# EAGLE library part PCA9554PW,118 (library PCA9554PW_118)
8-bit I2C-bus and SMBus I/O port with interrupt Check availability <https://pricing.snapeda.com/parts/PCA9554PW%2C118/NXP%20USA/view-part?ref=eda>
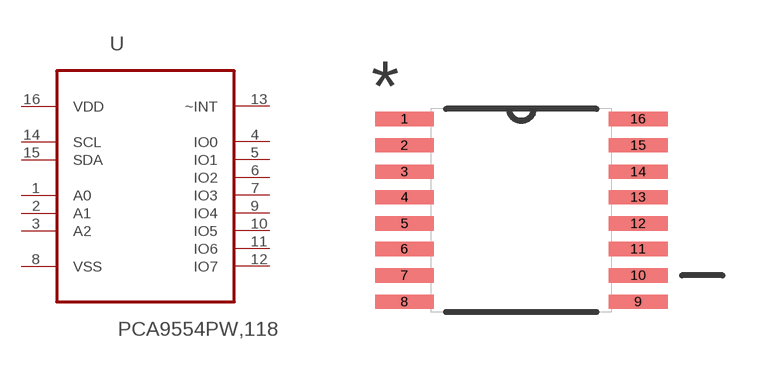
[diagram p0: symbol with the pads of SOP65P640X110-16N; footprint SOP65P640X110-16N]

Designator prefix U

## PCA9554PW,118 (Availability: In Stock; Description: I/O Expander 8 I²C, SMBus 400 kHz 16-TSSOP; MF: NXP USA; MP: PCA9554PW,118; Package: TSSOP-16 NXP Semiconductors; Price: None; Purchase-URL: https://pricing.snapeda.com/search/part/PCA9554PW,118/?ref=eda)  [SOP65P640X110-16N]
1  A0  in
2  A1  in
3  A2  in
4  IO0
5  IO1
6  IO2
7  IO3
8  VSS  pas
9  IO4
10  IO5
11  IO6
12  IO7
13  ~INT  out
14  SCL  in
15  SDA
16  VDD  pwr

## Footprint SOP65P640X110-16N (pad centres in mm)
smd 1.473 x 0.356: 1 -2.921,2.286; 2 -2.921,1.626; 3 -2.921,0.965; 4 -2.921,0.33; 5 -2.921,-0.33; 6 -2.921,-0.965; 7 -2.921,-1.626; 8 -2.921,-2.286; 9 2.921,-2.286; 10 2.921,-1.626; 11 2.921,-0.965; 12 2.921,-0.33; 13 2.921,0.33; 14 2.921,0.965; 15 2.921,1.626; 16 2.921,2.286